# EAGLE library part DW01A (library DW01A)
Check availability <https://pricing.snapeda.com/parts/DW01A/Fortune%20Semiconductor/view-part?ref=eda>
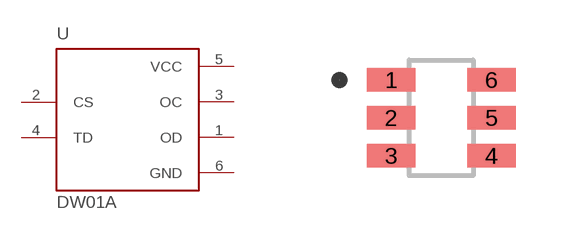
[diagram p0: symbol with the pads of SOT95P280X145-6N; footprint SOT95P280X145-6N]

Designator prefix U

## DW01A  [SOT95P280X145-6N]
1  OD  out
2  CS  in
3  OC  out
4  TD  pas
5  VCC  pwr
6  GND  pwr

## Footprint SOT95P280X145-6N (pad centres in mm)
smd 1.21 x 0.59: 1 -1.255,0.95; 2 -1.255,0; 3 -1.255,-0.95; 4 1.255,-0.95; 5 1.255,0; 6 1.255,0.95